# EAGLE library part Y__RGB-MODUL (library ++Bedrahtet)
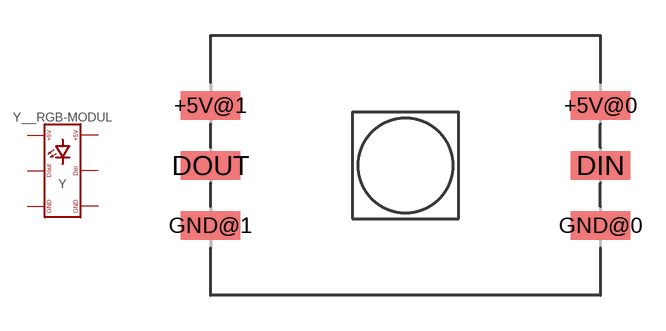
[diagram p49: symbol with the pads of RGB-MODUL; footprint RGB-MODUL]

Designator prefix Y

## Y__RGB-MODUL  [RGB-MODUL]
+5V@0  +5V
+5V@1  +5V
DIN  DIN  in
DOUT  DOUT  out
GND@0  GND
GND@1  GND

## Footprint RGB-MODUL (pad centres in mm)
smd 2.5 x 1.2: +5V@0 8.255,2.54; +5V@1 -8.255,2.54; DIN 8.255,0; DOUT -8.255,0; GND@0 8.255,-2.54; GND@1 -8.255,-2.54